# Altium schematic symbol library 4POS_SM04B-SRSS-TB(LF)(SN).SchLib: 1 symbol
Pins are listed as number, name and electrical type; pins without a type are passive.

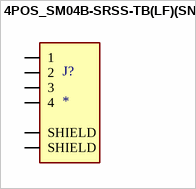
[diagram p0: symbol 4POS_SM04B-SRSS-TB(LF)(SN)]

## 4POS_SM04B-SRSS-TB(LF)(SN)
designator J?
SH Series 1.0 mm Pitch 2 Position Single Row Side Entry Shrouded Header; MP: SM04B-SRSS-TB(LF)(SN); Price: None; Value: *; Package: None; Availability: Unavailable
footprint 4POS_JST_SM04B-SRSS-TB(LF)(SN) (Footprint not found)
pins: 1, 2, 3, 4, S1 SHIELD, S2 SHIELD